# Altium footprint library DRA.PcbLib: 72 footprints (part 1 of 6)
Each footprint in its own frame and in the unit in brackets; x right, y up, seen from the top. Pads: shape width x height; smd on the part's side, far side on the other; paste and mask are expansions set on the pad; w line width, h text height; cw(c..) or ccw(c..) is an arc to the next point about the centre after c.
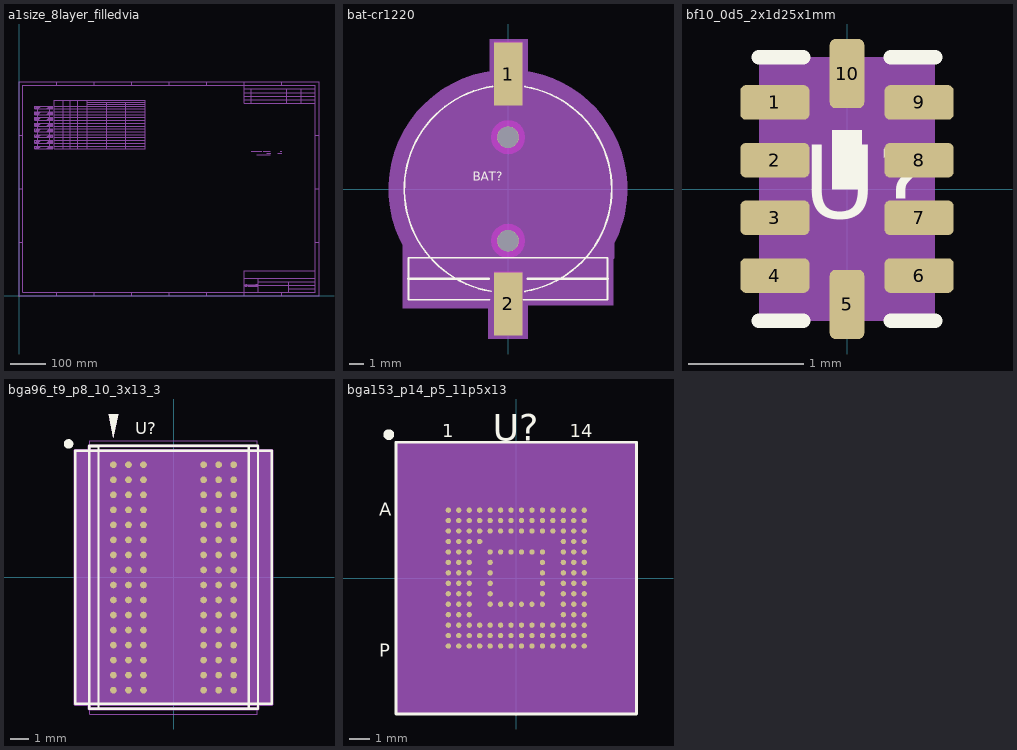
[diagram p0: the footprints below, top view; thin cyan lines are the x and y axes]

## a1size_8layer_filledvia [mil]
OUTLINE:
  drawing of 5288 lines, arcs and shapes, not listed
  text "7" at 26874.02,113.52 h225
  text "PREPREG" at 4044.72,18517.64 h80
  text "5" at 18606.3,23341.86 h225
  text "W:5" at 8219,17571 h80
  text "W:3.5/S:6.5" at 12216,18211 h80
  text "0.5 OZ" at 5775.83,20104.42 h80
  text "REV" at 25059.35,22604.46 h80
  text "L8 BOTTOM" at 3979.39,16291.5 h80
  text "B). OSP, THE OSP COATING THICKNESS IS 0.2 um ~0.5um." at 25167.26,10351.97 h80
  text "PREPREG" at 4044.72,19777.48 h80
  text "MANUFACTURER TO COMPENSATE FOR MANUFACTURING PROCESS TOLERANCES," at 25560.96,16769.29 h80
  text "FR4" at 5100.92,19808.82 h80
  text "6" at 22740.16,23341.86 h225
  text "PREPREG" at 2401.68,17247.4 h80
  text "0.5 OZ" at 5775.83,18855.42 h80
  text "COPPER" at 4995.92,20123.78 h80
  text "3" at 10338.58,113.52 h225
  text "TOP" at 4235.54,20711.97 h80
  text "COPPER" at 4995.92,18863.94 h80
  text "LAYER" at 4224.12,21223.78 h80
  text "PREPREG" at 2401.68,19767.09 h80
  text "ELEC ENGR:" at 29828.58,1336.22 h80
  text "17mil" at 5752.49,19141.89 h80
  text "4. FABRICATION TOLERANCE:" at 24839.8,15194.49 h80
  text "MAXIM 2.5mil" at 25560.96,12044.88 h80
  text "B). SOLDER MASK BOTH PRIMARY AND SECONDARY SIDES, THE ADHESION OF SOLDER" at 25206.63,12832.28 h80
  text "REV:" at 29829.54,942.52 h80
  text "4mil" at 5755.83,18525.22 h80
  text "DIMENSIONS ARE METRIC, DIMENSIONS ARE AFTER ETCHING AND PLATING." at 25206.63,6926.77 h80
  text "3. FABRICATION REQUIREMENTS:" at 24839.8,17359.84 h80
  text "PREPREG" at 4044.72,19147.56 h80
  text "TITLE:" at 26477.18,1729.92 h80
  text "L4 INNER" at 2356.61,18822.2 h80
  text "1. ACCEPTABILITY:" at 24839.8,18737.8 h80
  text "THICKNESS" at 5657.99,21223.78 h80
  text "0.5 OZ" at 5775.83,18229.42 h80
  text "FR4" at 5100.92,18541.77 h80
  text "W:5" at 8185.41,19468.56 h80
  text "www.seeedstudio.com" at 26500.79,656.69 h80
  text "ROUTING" at 6692.91,18188.98 h80
  text "PREPREG" at 4044.72,17257.8 h80
  text "FR4" at 5100.92,19178.9 h80
  text "L3 INNER" at 2356.61,19452.13 h80
  text "5" at 18606.3,113.52 h225
  text "W:4/S:5" at 10161.29,19487.47 h80
  text "8" at 31007.87,23341.86 h225
  text "L7 INNER" at 3998.72,16942.84 h80
  text "W:3.3/S:4.5" at 12214.57,20739.51 h80
  text "0.5 OZ" at 5775.83,16949.42 h80
  text "PRINTED WIRING BOARD SHALL MEET THE REQUIREMENTS OF IPC- 6012C CLASS 2." at 25206.63,18540.94 h80
  text "9. MEASUREMENTS:" at 24839.8,7320.47 h80
  text "L2 INNER" at 3998.72,20092.44 h80
  text "A). ENIG, GOLD THICKNESS IS 0.05 um ~0.23um,NICKEL THICKNESS IS 3 um ~6 um." at 25167.26,10548.82 h80
  text "DIFFERENCE 90ohm-/+10%" at 9693.3,21194.81 h80
  text "IMPEDANCE" at 10291.3,21431.03 h80
  text "LAYERS LAMINATION & IMPENDANCE  CONTROL" at 4079.63,21772.73 h225
  text "FR4" at 5100.92,17277.67 h80
  text "PREPREG" at 2401.68,19137.16 h80
  text "Line width/Space(mil)" at 11865.28,20997.96 h80
  text "ROUTING" at 6698,17595 h80
  text "COPPER" at 4995.92,19493.86 h80
  text "C). MANUFACTUREERS CAN ADD SYMBOL IN SILKSCREEN LAYER OR SOLDER MASK LAYER," at 25167.26,8895.28 h80
  text "A). FAB TO MEET THE REQUIREMENTS PER IPC-A-600, CLASS 2" at 25206.63,17162.99 h80
  text "E). SOLDER MASK BRIDGE BETWEEN PADS SHOULD BE MINIMUM 0.10mm" at 25204.26,11228.51 h80
  text "A). MATERIALS IN ACCORDANCE WITH IPC-SM-840E CLASS T STANDARDS AND ROHS" at 25206.63,13225.98 h80
  text "Line width(mil)" at 7889.32,20997.96 h80
  text "D). SOLDER MASK COLOR  GREEN,SILKSCREEN COLOR  WHITE" at 25206.63,15785.04 h80
  text "AUTHORIZED QA  REPRESENTATIVE. THE BASE MATERIAL OF PCB SHALL NOT CONTAIN THE" at 25206.63,6139.37 h80
  text "FR4" at 5100.92,16640.96 h80
  text "W:5" at 8185.41,16350.59 h80
  text "D). LAYER REGISTRATION BETWEEN ADJACENT LAYER MAXIMUN 150um, THE INTERLAYER" at 25206.63,14407.09 h80
  text "C). SOLDER MASK COVERAGE ON THE MIDDLE OF THE COPPER WIRE MINIMUM 10um,EDGE" at 25206.63,12438.58 h80
  text "L6 INNER" at 2356.61,17562.36 h80
  text "EPOXY BASED INK" at 25521.59,9288.98 h80
  text "A). PRIMARY AND SECONDARY SIDES USING A GLOSSY , NON-CONDUCTIVE, RoHS COMPLIANT," at 25167.26,9485.83 h80
  text "MEASUREMENT METHOD IN 2.4.22 OF IPC-TM-650 IS FOR REFERENCE" at 25206.63,7714.17 h80
  text "7. SILKSCREEN:" at 24800.42,9682.68 h80
  text "L2 INNER" at 2356.61,20082.05 h80
  text "ROUTING" at 6658,19456.85 h80
  text "GLASS EPOXY FR-4 FIRE RETARDANT AND UL 94V-0 RATING MATERIAL SHOULD MEET" at 25206.63,17950.39 h80
  text "2" at 6204.72,113.52 h225
  text "DIELECTRIC THICKNESS TOLERANCE +/-15%" at 25560.96,14210.24 h80
  text "7" at 26874.02,23341.86 h225
  text "8. BOW AND TWIST:" at 24839.8,8107.87 h80
  text "LAYERS STACKUP" at 2204.26,21223.78 h80
  text "L4 INNER" at 3998.72,18832.6 h80
  text "C). FABRICATE ACCORDING TO THE FILES PART NO:" at 25206.63,16178.74 h80
  text "Seeed Technology co.,Ltd." at 25496.06,2278.87 h225
  text "MAX BOW & TWIST OF PCB SHALL NOT EXCEED 0.75% OF MAXIMUN DIMENSION," at 25206.63,7911.02 h80
  text "DATE" at 30082.5,22596.06 h80
  text "PREPREG" at 2401.68,18507.24 h80
  text "PREPREG" at 2401.68,16617.48 h80
  text "PREPREG" at 4044.72,17887.72 h80
  text "L5 INNER" at 3998.72,18202.68 h80
  text "5. SOLDER MASK:" at 24839.8,13422.84 h80
  text "A" at 32779.53,2869.42 h225
  text "A" at 102.36,2869.42 h225
  text "2020/08/24" at 29710.47,22202.36 h80
  text "PREPREG" at 2401.68,17877.32 h80
  text "6. FINISH:" at 24800.42,10745.67 h80
  text "4mil" at 5775.83,17277.52 h80
  text "E). FINISH ENIG/OSP/LF HASL" at 25206.63,15588.19 h80
  text "THE  PCB SUPPLIER SHALL PROVIDE A SIGNED CERTIFICATE OF COMPLIANCE BY" at 25206.63,6336.22 h80
  text "NOTE" at 24842.52,19251.97 h225
  text "L3 INNER" at 3998.72,19462.52 h80
  text "B). NO SILKSCREEN ALLOWED ON PADS OR IN HOLES" at 25167.26,9092.13 h80
  text "4" at 14472.44,113.52 h225
  text "NON-CONDUCTIVE MATERIAL" at 25567.67,11464.73 h80
  text "PREPREG" at 2401.68,20397.01 h80
  text "E). THICKNESS IS LESS THAN 1mm PCB TO A TOLERANCE OF +/-0.1mm,THICKNESS IS" at 25206.63,14013.39 h80
  text "2. MATERIAL:" at 24839.8,18147.24 h80
  text "COVERAGE OF THE COPPER WIRE MINIMUM 4um, SOLDER MASK MISREGISTRATION" at 25560.96,12241.73 h80
  text "L6 INNER" at 3998.72,17572.76 h80
  text "3mil" at 5752.49,16622.21 h80
  text "0.5 OZ" at 5775.83,19499.42 h80
  text "GREATER THAN OR EQUAL TO 1mm PCB TO A TOLERANCE OF +/-10%" at 25560.96,13816.54 h80
  text "BANNED SUBSTANCES LISTED IN THE CERTIFICATE OF COMPLIANCE." at 25206.63,5942.52 h80
  text "COPPER" at 4995.92,18214.06 h80
  text "COPPER" at 4995.92,17586.66 h80
  text "A). WIRE WIDTH TOLERANCE INTERNAL CONTROL STANDARD +/-20%" at 25206.63,14997.64 h80
  text "W:4/S:5" at 10161.94,18197.01 h80
  text "COPPER" at 4995.92,16978.08 h80
  text "C" at 102.36,14680.44 h225
  text "C" at 32779.53,14680.44 h225
  text "THE TOTAL THICKNESS:" at 4373.38,15396.28 h225
  text "W:3.3/S:4.5" at 12366.14,16346.46 h80
  text "AUTH" at 31657.3,22596.06 h80
  text "3" at 10338.58,23341.86 h225
  text "W:5" at 8128.41,20758.22 h80
  text "FR4" at 5100.92,17923.78 h80
  text "THIEVING IS ALLOWED TO COMPENSATE FOR HIGH COPPER DENSITY AREAS" at 25560.96,16375.59 h80
  text "2" at 6204.72,23341.86 h225
  text "Line width/Space(mil)" at 9699.93,20997.96 h80
  text "ROUTING" at 6688.07,20751.34 h80
  text "D). ALL HOLES WITH SOLDER MASK COVERED IN THE GERBER SHOULD BE PULGED" at 25206.63,11848.03 h80
  text "1" at 2070.87,113.52 h225
  text "B). ALL ARTWORK OR ELECTRONIC DATA MAY BE ADJUSTED BY THE BOARD" at 25206.63,16966.14 h80
  text "W:5" at 8228.35,18188.98 h80
  text "LAYER TYPE" at 6583.07,21223.78 h80
  text "W:4.3/S:5.5" at 10048.96,20758.34 h80
  text "C). ALL OUTER LAYER PADS REQUIRE +/-0.05mm TOLERANCE." at 25206.63,14603.94 h80
  text "4mil" at 5706.49,19771.82 h80
  text "ALL VIAS IN PADS WITH HOLE DIAMETER LESS THAN 0.4mm SHOULD BE FILLED WITH" at 25590.51,11661.58 h80
  text "2020/08/24" at 30415,547 h80
  text "W:4.3/S:5.5" at 10217.44,16331.97 h80
  text "COPPER" at 4995.92,20751.34 h80
  text "0.5 OZ" at 5759.12,17606.46 h80
  text "1 OZ" at 5775.83,16351.42 h80
  text "DIFFERENCE 100ohm-/+10%" at 11773.28,21194.81 h80
  text "W:4/S:5" at 10148.94,17582.01 h80
  text "W:3.5/S:6.5" at 12212,17605 h80
  text "PLANE" at 6758.07,20121.42 h80
  text "PREPREG" at 4044.72,16627.88 h80
  text "D" at 32779.53,20585.96 h225
  text "DATE:" at 29842.52,551.18 h80
  text "IPC-4101C" at 25206.63,17753.54 h80
  text "REQUIREMENTS" at 25560.96,13029.13 h80
  text "PREPREG" at 4044.72,20407.41 h80
  text "REVISIONS" at 27874.02,22908.79 h225
  text "1.6mm+/-10%" at 9137.87,15371.62 h225
  text "ROUTING" at 6688.07,16313.25 h80
  text "ALLOW TO INCREASE SYMBOL :ASSEMBLY REF , DATE CODE, LEAD-FREE SYMBOL, UL FILE" at 25521.59,8698.42 h80
  text "ACTION" at 25824.63,22596.06 h80
  text "Seeed" at 31656,22189 h80
  text "MASK MEET THE REQUIREMENTS OF IPC-A-600F LEVEL 2" at 25560.96,12635.43 h80
  text "L7 INNER" at 2356.61,16932.44 h80
  text "L8 BOTTOM" at 2342,16298 h80
  text "3mil" at 5706.49,20401.74 h80
  text "L5 INNER" at 2356.61,18192.28 h80
  text "first release" at 25817,22191 h80
  text "6" at 22740.16,113.52 h225
  text "FR4" at 5100.92,20436.38 h80
  text "ADDITION OF FILLETS TEARDROPS AT LINE / PAD INTERFACE IS PREFERRED." at 25560.96,16572.44 h80
  text "W:3.5/S:6.5" at 12248.15,19456.85 h80
  text "PLANE" at 6771.65,18858.27 h80
  text "1001001000059_ MINI8600B_GERBER_Rev00 FILE FOR MANUFACTURING" at 25560.96,15981.89 h80
  text "ADD:" at 26499.82,942.52 h80
  text "COPPER" at 4995.92,16350.78 h80
  text "1 OZ" at 5775.83,20747.39 h80
  text "v1.0" at 30206,937 h80
  text "MATERIAL" at 4876.3,21223.78 h80
  text "TOP" at 2581.99,20711.97 h80
  text "PLANE" at 6758.07,16968.67 h80
  text "17mil" at 5775.83,17921.12 h80
  text "PART NUMBER:" at 26498.86,1336.22 h80
  text "INTERPRET ALL DIMENSIONS AND TOLERANCES PER IPC-D-300G, CLASS B AND ALL" at 25206.63,7123.62 h80
  text "C). LF HASL, Sn THICKNESS IS 1 um ~40um ." at 25167.26,10155.12 h80
  text "v1.0" at 25071,22203 h80
  text "4" at 14472.44,23341.86 h225
  text "SINGLE 50ohm+/-10%" at 7751.32,21194.81 h80
  text "NUMBER,UL TYPE, UL SYMBOL AND FIRE RATING,NO LIST DOES NOT ALLOW TO INCREASE." at 25521.59,8501.58 h80
  text "D" at 102.36,20585.96 h225
  text "10.ENVIRONMENTAL:" at 24839.8,6533.07 h80
  text "B). PTH  DIAMETER TOLERANCE +/-0.076mm,NPTH DIAMETER TOLERANCE +/-0.05mm" at 25206.63,14800.79 h80
  text "1" at 2070.87,23341.86 h225
  text "B" at 32779.53,8774.93 h225
  text "8" at 31007.87,113.52 h225
  text "B" at 102.36,8774.93 h225
DRAWING_ORIGIN:
  lines w1: -25,0 25,0 ; 0,-25 0,25
REVISION_BLOCK:
  lines w11.81: 25590.55,15944.88 26732.28,15944.88 ; 26220.47,15551.18 27677.16,15551.18 ; 26929.13,15944.88 27716.54,15944.88 ; 27322.84,15748.03 27755.91,15748.03 ; 28527.56,15748.03 28960.63,15748.03 ; 28779.53,15944.88 28937.01,15944.88

## bat-cr1220 [mil]
pads (4):
  rect 80x176 smd: 1(0,322.83) 2(0,-322.83)
  round 60 hole 60: ""(0,-145.67) ""(0,145.67)
TOP keep-out:
  region: -39.37,-232.28 -39.37,-409.45 39.37,-409.45 39.37,-232.28
  region: -39.37,413.39 -39.37,236.22 39.37,236.22 39.37,413.39
Top Overlay:
  lines w5: -51.18,-311.02 -279.53,-311.02 -279.53,-192.91 279.53,-192.91 279.53,-311.02 43.31,-311.02 ; -47.9,-287.37 cw(c0,0) -43.41,288.09 ; 47.26,-287.48 ccw(c0,0) 291.34,0 ccw(c0,0) 47.26,287.48
  lines w7.87: -279.53,-251.97 -55.12,-251.97 ; 55.12,-251.97 279.53,-251.97
  text "BAT?" at -98.43,23.62 h25
PLACE_BOUND_TOP:
  region: 334.65,0 334.65,14.71 332.07,44.01 326.93,72.98 319.26,101.38 309.13,129 296.62,155.63 281.82,181.05 264.85,205.08 245.84,227.53 224.93,248.22 202.28,267 178.07,283.71 152.49,298.24 125.74,310.47 98.01,320.31 69.53,327.67 55.02,330.09 55.02,417.43 55.12,417.53 55.12,421.26 -51.18,421.26 -51.18,330.71 -66.96,328.27 -97.91,320.4 -127.98,309.62 -156.87,296.03 -184.35,279.75 -210.15,260.93 -234.04,239.73 -255.8,216.36 -275.24,191.02 -292.18,163.94 -306.46,135.38 -317.96,105.58 -326.57,74.83 -332.21,43.39 -334.83,11.57 -334.41,-20.37 -330.95,-52.12 -324.49,-83.39 -315.07,-113.91 -302.79,-143.39 -295.28,-157.48 -295.28,-334.65 -55.12,-334.65 -55.12,-421.26 55.12,-421.26 55.12,-326.77 295.28,-326.77 295.28,-196.85 297.73,-194.39 297.73,-152.78 302.26,-143.96 310.26,-125.8 317.16,-107.2 322.96,-88.23 327.62,-68.95 331.13,-49.42 333.47,-29.72 334.65,-9.92
Multi-Layer keep-out:
  region: 47.65,-145.67 46.02,-133.34 41.26,-121.85 33.69,-111.98 23.82,-104.41 12.33,-99.65 0,-98.02 -12.33,-99.65 -23.82,-104.41 -33.69,-111.98 -41.26,-121.85 -46.02,-133.34 -47.65,-145.67 -46.02,-158 -41.26,-169.49 -33.69,-179.36 -23.82,-186.93 -12.33,-191.69 0,-193.32 12.33,-191.69 23.82,-186.93 33.69,-179.36 41.26,-169.49 46.02,-158
  region: 47.65,145.67 46.02,158 41.26,169.49 33.69,179.36 23.82,186.93 12.33,191.69 0,193.32 -12.33,191.69 -23.82,186.93 -33.69,179.36 -41.26,169.49 -46.02,158 -47.65,145.67 -46.02,133.34 -41.26,121.85 -33.69,111.98 -23.82,104.41 -12.33,99.65 0,98.02 12.33,99.65 23.82,104.41 33.69,111.98 41.26,121.85 46.02,133.34
DRAWING_ORIGIN:
  lines w1: -25,0 25,0 ; 0,-25 0,25
PIN_NUMBER:
  text "2" at -10,-322.83 h25
  text "1" at -10,322.83 h25
ASSEMBLY_TOP:
  text "V?" at -196.85,-129.92 h25
  text "BAT?" at -102.36,15.75 h25
3D body: height 150, standoff 0, extent -334.83,-421.26 334.65,421.26

## bf10_0d5_2x1d25x1mm [mm]
pads (10):
  rrect33% 0.6x0.3 smd: 1(-0.625,0.75) 2(-0.625,0.25) 3(-0.625,-0.25) 4(-0.625,-0.75) 6(0.625,-0.75) 7(0.625,-0.25) 8(0.625,0.25) 9(0.625,0.75)
  rrect33% 0.3x0.6 smd: 5(0,-1) 10(0,1)
Top Overlay:
  dashed: -0.127,0.508 -0.127,0 0.127,0 0.127,0.508
  lines w0.127: -0.762,-1.143 -0.381,-1.143 ; -0.762,1.143 -0.381,1.143 ; 0.381,-1.143 0.762,-1.143 ; 0.381,1.143 0.762,1.143
  text "U?" at -0.381,-0.254 h0.64
PLACE_BOUND_TOP:
  region: 0.762,-1.143 0.762,1.143 -0.762,1.143 -0.762,-1.143
DRAWING_ORIGIN:
  lines w0.025: -0.635,0 0.635,0 ; 0,-0.635 0,0.635
PIN_NUMBER:
  text "9" at 0.371,0.75 h0.64
  text "5" at -0.254,-1 h0.64
  text "8" at 0.371,0.25 h0.64
  text "1" at -0.879,0.75 h0.64
  text "6" at 0.371,-0.75 h0.64
  text "10" at -0.508,1 h0.64
  text "2" at -0.879,0.25 h0.64
  text "7" at 0.371,-0.25 h0.64
  text "4" at -0.879,-0.75 h0.64
  text "3" at -0.879,-0.25 h0.64
ASSEMBLY_TOP:
  dashed: -0.254,0.635 -0.254,-0.127 0.254,-0.127 0.254,0.635
  lines w0.127: -0.625,-1 0.625,-1 0.625,1 -0.625,1 -0.625,-1
  text "U?" at -0.381,0 h0.64
  text "U?" at -0.254,0.127 h0.64
3D body: height 3.81, standoff 0, extent -0.762,-1.143 0.762,1.143

## bga96_t9_p8_10_3x13_3 [mil]
pads (96):
  round 14 smd: A1(-126,236.25) A2(-94.5,236.25) A3(-63,236.25) A7(63,236.25) A8(94.5,236.25) A9(126,236.25) B1(-126,204.75) B2(-94.5,204.75) B3(-63,204.75) B7(63,204.75) B8(94.5,204.75) B9(126,204.75) C1(-126,173.25) C2(-94.5,173.25) C3(-63,173.25) C7(63,173.25) C8(94.5,173.25) C9(126,173.25) D1(-126,141.75) D2(-94.5,141.75) D3(-63,141.75) D7(63,141.75) D8(94.5,141.75) D9(126,141.75) E1(-126,110.25) E2(-94.5,110.25) E3(-63,110.25) E7(63,110.25) E8(94.5,110.25) E9(126,110.25) F1(-126,78.75) F2(-94.5,78.75) F3(-63,78.75) F7(63,78.75) F8(94.5,78.75) F9(126,78.75) G1(-126,47.25) G2(-94.5,47.25) G3(-63,47.25) G7(63,47.25) G8(94.5,47.25) G9(126,47.25) H1(-126,15.75) H2(-94.5,15.75) H3(-63,15.75) H7(63,15.75) H8(94.5,15.75) H9(126,15.75) J1(-126,-15.75) J2(-94.5,-15.75) J3(-63,-15.75) J7(63,-15.75) J8(94.5,-15.75) J9(126,-15.75) K1(-126,-47.25) K2(-94.5,-47.25) K3(-63,-47.25) K7(63,-47.25) K8(94.5,-47.25) K9(126,-47.25) L1(-126,-78.75) L2(-94.5,-78.75) L3(-63,-78.75) L7(63,-78.75) L8(94.5,-78.75) L9(126,-78.75) M1(-126,-110.25) M2(-94.5,-110.25) M3(-63,-110.25) M7(63,-110.25) M8(94.5,-110.25) M9(126,-110.25) N1(-126,-141.75) N2(-94.5,-141.75) N3(-63,-141.75) N7(63,-141.75) N8(94.5,-141.75) N9(126,-141.75) P1(-126,-173.25) P2(-94.5,-173.25) P3(-63,-173.25) P7(63,-173.25) P8(94.5,-173.25) P9(126,-173.25) R1(-126,-204.75) R2(-94.5,-204.75) R3(-63,-204.75) R7(63,-204.75) R8(94.5,-204.75) R9(126,-204.75) T1(-126,-236.25) T2(-94.5,-236.25) T3(-63,-236.25) T7(63,-236.25) T8(94.5,-236.25) T9(126,-236.25)
Top Overlay:
  circle w10: c-220,280 r5
  dashed: -126,292.75 -116,342.75 -136,342.75
  lines w5: -177,275.5 -157.32,275.5 -157.32,-275 ; -172,-275 -157.32,-275 ; 123,276 157.32,276 157.32,-275 -157.32,-275 ; -206,-265 -206,266 206,266 206,-265 -206,-265 ; -177,-275 177,-275 177,276 -177,276 -177,-275
  text "U?" at -80,300 h25
Bottom Overlay:
  text "E" at 222,89.75 h25
  text "G" at 222,26.75 h25
  text "7" at 74,-321.25 h25
  text "R" at 222,-225.25 h25
  text "A" at 222,215.75 h25
  text "J" at 222,-36.25 h25
  text "L" at 222,-99.25 h25
  text "C" at 222,152.75 h25
  text "3" at -52,-321.25 h25
  text "N" at 222,-162.25 h25
  text "9" at 137,-321.25 h25
  text "1" at -115,-321.25 h25
PLACE_BOUND_TOP:
  region: -206,266 -206,-265 206,-265 206,266
DRAWING_ORIGIN:
  lines w1: -25,0 25,0 ; 0,-25 0,25
PIN_NUMBER:
  text "R7" at 59,-204.75 h5
  text "N7" at 59,-141.75 h5
  text "G8" at 90.5,47.25 h5
  text "J7" at 59,-15.75 h5
  text "B9" at 122,204.75 h5
  text "J1" at -130,-15.75 h5
  text "C8" at 90.5,173.25 h5
  text "H1" at -130,15.75 h5
  text "D3" at -67,141.75 h5
  text "N2" at -98.5,-141.75 h5
  text "C2" at -98.5,173.25 h5
  text "K2" at -98.5,-47.25 h5
  text "B1" at -130,204.75 h5
  text "D7" at 59,141.75 h5
  text "G1" at -130,47.25 h5
  text "E3" at -67,110.25 h5
  text "H8" at 90.5,15.75 h5
  text "M7" at 59,-110.25 h5
  text "F8" at 90.5,78.75 h5
  text "F2" at -98.5,78.75 h5
  text "L3" at -67,-78.75 h5
  text "P2" at -98.5,-173.25 h5
  text "A7" at 59,236.25 h5
  text "H7" at 59,15.75 h5
  text "R2" at -98.5,-204.75 h5
  text "M3" at -67,-110.25 h5
  text "T9" at 122,-236.25 h5
  text "K3" at -67,-47.25 h5
  text "N1" at -130,-141.75 h5
  text "G3" at -67,47.25 h5
  text "A9" at 122,236.25 h5
  text "K8" at 90.5,-47.25 h5
  text "L7" at 59,-78.75 h5
  text "G7" at 59,47.25 h5
  text "H3" at -67,15.75 h5
  text "T8" at 90.5,-236.25 h5
  text "D2" at -98.5,141.75 h5
  text "F7" at 59,78.75 h5
  text "K7" at 59,-47.25 h5
  text "M9" at 122,-110.25 h5
  text "E2" at -98.5,110.25 h5
  text "L2" at -98.5,-78.75 h5
  text "D8" at 90.5,141.75 h5
  text "A1" at -130,236.25 h5
  text "P1" at -130,-173.25 h5
  text "M1" at -130,-110.25 h5
  text "D1" at -130,141.75 h5
  text "L9" at 122,-78.75 h5
  text "F1" at -130,78.75 h5
  text "K1" at -130,-47.25 h5
  text "G9" at 122,47.25 h5
  text "N9" at 122,-141.75 h5
  text "E1" at -130,110.25 h5
  text "C1" at -130,173.25 h5
  text "B3" at -67,204.75 h5
  text "P3" at -67,-173.25 h5
  text "A8" at 90.5,236.25 h5
  text "F3" at -67,78.75 h5
  text "L1" at -130,-78.75 h5
  text "E9" at 122,110.25 h5
  text "H2" at -98.5,15.75 h5
  text "P7" at 59,-173.25 h5
  text "G2" at -98.5,47.25 h5
  text "T2" at -98.5,-236.25 h5
  text "T3" at -67,-236.25 h5
  text "H9" at 122,15.75 h5
  text "N8" at 90.5,-141.75 h5
  text "F9" at 122,78.75 h5
  text "E8" at 90.5,110.25 h5
  text "J3" at -67,-15.75 h5
  text "R3" at -67,-204.75 h5
  text "C7" at 59,173.25 h5
  text "T7" at 59,-236.25 h5
  text "B7" at 59,204.75 h5
  text "M8" at 90.5,-110.25 h5
  text "R8" at 90.5,-204.75 h5
  text "J9" at 122,-15.75 h5
  text "C3" at -67,173.25 h5
  text "A3" at -67,236.25 h5
  text "C9" at 122,173.25 h5
  text "K9" at 122,-47.25 h5
  text "J2" at -98.5,-15.75 h5
  text "M2" at -98.5,-110.25 h5
  text "P8" at 90.5,-173.25 h5
  text "L8" at 90.5,-78.75 h5
  text "E7" at 59,110.25 h5
  text "J8" at 90.5,-15.75 h5
  text "P9" at 122,-173.25 h5
  text "N3" at -67,-141.75 h5
  text "R9" at 122,-204.75 h5
  text "T1" at -130,-236.25 h5
  text "B2" at -98.5,204.75 h5
  text "D9" at 122,141.75 h5
  text "R1" at -130,-204.75 h5
  text "A2" at -98.5,236.25 h5
  text "B8" at 90.5,204.75 h5
ASSEMBLY_TOP:
  circle w7: c-181,241.25 r15
  dashed: -126,292.75 -116,342.75 -136,342.75
  lines w7: -206,-265.5 -206,265.5 206,265.5 206,-265.5 -206,-265.5 ; -177,-275.5 -177,275.5 177,275.5 177,-275.5 -177,-275.5
  text "U?" at -80,-20 h25
  text "C" at 222,152.75 h25
  text "L" at 222,-99.25 h25
  text "J" at 222,-36.25 h25
  text "7" at 74,-321.25 h25
  text "9" at 137,-321.25 h25
  text "A" at 222,215.75 h25
  text "E" at 222,89.75 h25
  text "3" at -52,-321.25 h25
  text "1" at -115,-321.25 h25
  text "G" at 222,26.75 h25
  text "R" at 222,-225.25 h25
  text "U?" at -39,46 h25
  text "N" at 222,-162.25 h25
REWORK_PKG_BOTTOM:
  lines w1: -15,0 15,0 ; 0,-15 0,15
REWORK_PKG_TOP:
  dashed: -134,245 -134,-245 -55,-245 -55,245
  dashed: 134,-245 134,245 55,245 55,-245
  lines w1: -15,0 15,0 ; 0,-15 0,15
Mech255:
  lines w1: -176,-286.25 -176,286.25 176,286.25 176,-286.25 -176,-286.25
3D body: height 150, standoff 0, extent -206,-265 206,266

## bga153_p14_p5_11p5x13 [mil]
pads (153):
  round 10 smd: A1(-127.95,127.95) A2(-108.27,127.95) A3(-88.58,127.95) A4(-68.9,127.95) A5(-49.21,127.95) A6(-29.53,127.95) A7(-9.84,127.95) A8(9.84,127.95) A9(29.53,127.95) A10(49.21,127.95) A11(68.9,127.95) A12(88.58,127.95) A13(108.27,127.95) A14(127.95,127.95) B1(-127.95,108.27) B2(-108.27,108.27) B3(-88.58,108.27) B4(-68.9,108.27) B5(-49.21,108.27) B6(-29.53,108.27) B7(-9.84,108.27) B8(9.84,108.27) B9(29.53,108.27) B10(49.21,108.27) B11(68.9,108.27) B12(88.58,108.27) B13(108.27,108.27) B14(127.95,108.27) C1(-127.95,88.58) C2(-108.27,88.58) C3(-88.58,88.58) C4(-68.9,88.58) C5(-49.21,88.58) C6(-29.53,88.58) C7(-9.84,88.58) C8(9.84,88.58) C9(29.53,88.58) C10(49.21,88.58) C11(68.9,88.58) C12(88.58,88.58) C13(108.27,88.58) C14(127.95,88.58) D1(-127.95,68.9) D2(-108.27,68.9) D3(-88.58,68.9) D4(-68.9,68.9) D12(88.58,68.9) D13(108.27,68.9) D14(127.95,68.9) E1(-127.95,49.21) E2(-108.27,49.21) E3(-88.58,49.21) E5(-49.21,49.21) E6(-29.53,49.21) E7(-9.84,49.21) E8(9.84,49.21) E9(29.53,49.21) E10(49.21,49.21) E12(88.58,49.21) E13(108.27,49.21) E14(127.95,49.21) F1(-127.95,29.53) F2(-108.27,29.53) F3(-88.58,29.53) F5(-49.21,29.53) F10(49.21,29.53) F12(88.58,29.53) F13(108.27,29.53) F14(127.95,29.53) G1(-127.95,9.84) G2(-108.27,9.84) G3(-88.58,9.84) G5(-49.21,9.84) G10(49.21,9.84) G12(88.58,9.84) G13(108.27,9.84) G14(127.95,9.84) H1(-127.95,-9.84) H2(-108.27,-9.84) H3(-88.58,-9.84) H5(-49.21,-9.84) H10(49.21,-9.84) H12(88.58,-9.84) H13(108.27,-9.84) H14(127.95,-9.84) J1(-127.95,-29.53) J2(-108.27,-29.53) J3(-88.58,-29.53) J5(-49.21,-29.53) J10(49.21,-29.53) J12(88.58,-29.53) J13(108.27,-29.53) J14(127.95,-29.53) K1(-127.95,-49.21) K2(-108.27,-49.21) K3(-88.58,-49.21) K5(-49.21,-49.21) K6(-29.53,-49.21) K7(-9.84,-49.21) K8(9.84,-49.21) K9(29.53,-49.21) K10(49.21,-49.21) K12(88.58,-49.21) K13(108.27,-49.21) K14(127.95,-49.21) L1(-127.95,-68.9) L2(-108.27,-68.9) L3(-88.58,-68.9) L12(88.58,-68.9) L13(108.27,-68.9) L14(127.95,-68.9) M1(-127.95,-88.58) M2(-108.27,-88.58) M3(-88.58,-88.58) M4(-68.9,-88.58) M5(-49.21,-88.58) M6(-29.53,-88.58) M7(-9.84,-88.58) M8(9.84,-88.58) M9(29.53,-88.58) M10(49.21,-88.58) M11(68.9,-88.58) M12(88.58,-88.58) M13(108.27,-88.58) M14(127.95,-88.58) N1(-127.95,-108.27) N2(-108.27,-108.27) N3(-88.58,-108.27) N4(-68.9,-108.27) N5(-49.21,-108.27) N6(-29.53,-108.27) N7(-9.84,-108.27) N8(9.84,-108.27) N9(29.53,-108.27) N10(49.21,-108.27) N11(68.9,-108.27) N12(88.58,-108.27) N13(108.27,-108.27) N14(127.95,-108.27) P1(-127.95,-127.95) P2(-108.27,-127.95) P3(-88.58,-127.95) P4(-68.9,-127.95) P5(-49.21,-127.95) P6(-29.53,-127.95) P7(-9.84,-127.95) P8(9.84,-127.95) P9(29.53,-127.95) P10(49.21,-127.95) P11(68.9,-127.95) P12(88.58,-127.95) P13(108.27,-127.95) P14(127.95,-127.95)
Top Overlay:
  circle w10: c-240,270 r5
  lines w5: -226.38,-255.91 -226.38,255.91 226.38,255.91 226.38,-255.91 -226.38,-255.91
  text "14" at 100.95,265.26 h25
  text "A" at -257.56,117.62 h25
  text "P" at -257.56,-148.13 h25
  text "U?" at -44.5,258.93 h50
  text "1" at -139.45,265.26 h25
PLACE_BOUND_TOP:
  region: -226.38,-255.91 226.38,-255.91 226.38,255.91 -226.38,255.91
DRAWING_ORIGIN:
  lines w1: -25,0 25,0 ; 0,-25 0,25
PIN_NUMBER:
  text "P1" at -134.35,-127.95 h8
  text "N5" at -55.61,-108.27 h8
  text "K6" at -35.93,-49.21 h8
  text "L12" at 78.98,-68.9 h8
  text "F14" at 118.35,29.53 h8
  text "C8" at 3.44,88.58 h8
  text "C9" at 23.13,88.58 h8
  text "E3" at -94.98,49.21 h8
  text "L1" at -134.35,-68.9 h8
  text "B12" at 78.98,108.27 h8
  text "C3" at -94.98,88.58 h8
  text "G10" at 39.61,9.84 h8
  text "K8" at 3.44,-49.21 h8
  text "A12" at 78.98,127.95 h8
  text "A4" at -75.3,127.95 h8
  text "B14" at 118.35,108.27 h8
  text "H1" at -134.35,-9.84 h8
  text "E1" at -134.35,49.21 h8
  text "C4" at -75.3,88.58 h8
  text "C14" at 118.35,88.58 h8
  text "N3" at -94.98,-108.27 h8
  text "G2" at -114.67,9.84 h8
  text "D13" at 98.67,68.9 h8
  text "M1" at -134.35,-88.58 h8
  text "F3" at -94.98,29.53 h8
  text "H2" at -114.67,-9.84 h8
  text "K1" at -134.35,-49.21 h8
  text "D12" at 78.98,68.9 h8
  text "H13" at 98.67,-9.84 h8
  text "B13" at 98.67,108.27 h8
  text "K13" at 98.67,-49.21 h8
  text "A3" at -94.98,127.95 h8
  text "M13" at 98.67,-88.58 h8
  text "J13" at 98.67,-29.53 h8
  text "E6" at -35.93,49.21 h8
  text "J5" at -55.61,-29.53 h8
  text "M8" at 3.44,-88.58 h8
  text "N7" at -16.24,-108.27 h8
  text "E14" at 118.35,49.21 h8
  text "K12" at 78.98,-49.21 h8
  text "N13" at 98.67,-108.27 h8
  text "M12" at 78.98,-88.58 h8
  text "P14" at 118.35,-127.95 h8
  text "M2" at -114.67,-88.58 h8
  text "N2" at -114.67,-108.27 h8
  text "A13" at 98.67,127.95 h8
  text "K3" at -94.98,-49.21 h8
  text "C7" at -16.24,88.58 h8
  text "B1" at -134.35,108.27 h8
  text "F2" at -114.67,29.53 h8
  text "M4" at -75.3,-88.58 h8
  text "B11" at 59.3,108.27 h8
  text "E5" at -55.61,49.21 h8
  text "C6" at -35.93,88.58 h8
  text "C12" at 78.98,88.58 h8
  text "M9" at 23.13,-88.58 h8
  text "B5" at -55.61,108.27 h8
  text "A11" at 59.3,127.95 h8
  text "K5" at -55.61,-49.21 h8
  text "A6" at -35.93,127.95 h8
  text "K10" at 39.61,-49.21 h8
  text "P7" at -16.24,-127.95 h8
  text "B7" at -16.24,108.27 h8
  text "B10" at 39.61,108.27 h8
  text "G14" at 118.35,9.84 h8
  text "J12" at 78.98,-29.53 h8
  text "M3" at -94.98,-88.58 h8
  text "N1" at -134.35,-108.27 h8
  text "A7" at -16.24,127.95 h8
  text "A2" at -114.67,127.95 h8
  text "H12" at 78.98,-9.84 h8
  text "M7" at -16.24,-88.58 h8
  text "E7" at -16.24,49.21 h8
  text "H3" at -94.98,-9.84 h8
  text "E10" at 39.61,49.21 h8
  text "D3" at -94.98,68.9 h8
  text "P12" at 78.98,-127.95 h8
  text "P10" at 39.61,-127.95 h8
  text "B4" at -75.3,108.27 h8
  text "G13" at 98.67,9.84 h8
  text "P9" at 23.13,-127.95 h8
  text "D2" at -114.67,68.9 h8
  text "J3" at -94.98,-29.53 h8
  text "B3" at -94.98,108.27 h8
  text "B6" at -35.93,108.27 h8
  text "P8" at 3.44,-127.95 h8
  text "B2" at -114.67,108.27 h8
  text "K7" at -16.24,-49.21 h8
  text "D4" at -75.3,68.9 h8
  text "B9" at 23.13,108.27 h8
  text "P11" at 59.3,-127.95 h8
  text "C13" at 98.67,88.58 h8
  text "A1" at -134.35,127.95 h8
  text "H10" at 39.61,-9.84 h8
  text "G1" at -134.35,9.84 h8
  text "F10" at 39.61,29.53 h8
  text "N8" at 3.44,-108.27 h8
  text "F1" at -134.35,29.53 h8
  text "J10" at 39.61,-29.53 h8
  text "M6" at -35.93,-88.58 h8
  text "A8" at 3.44,127.95 h8
  text "J2" at -114.67,-29.53 h8
  text "K9" at 23.13,-49.21 h8
  text "N9" at 23.13,-108.27 h8
  text "K2" at -114.67,-49.21 h8
  text "P4" at -75.3,-127.95 h8
  text "A9" at 23.13,127.95 h8
  text "P5" at -55.61,-127.95 h8
  text "K14" at 118.35,-49.21 h8
  text "N6" at -35.93,-108.27 h8
  text "J14" at 118.35,-29.53 h8
  text "C11" at 59.3,88.58 h8
  text "J1" at -134.35,-29.53 h8
  text "L3" at -94.98,-68.9 h8
  text "N14" at 118.35,-108.27 h8
  text "G5" at -55.61,9.84 h8
  text "P6" at -35.93,-127.95 h8
  text "F12" at 78.98,29.53 h8
  text "M14" at 118.35,-88.58 h8
  text "A14" at 118.35,127.95 h8
  text "P2" at -114.67,-127.95 h8
  text "L14" at 118.35,-68.9 h8
  text "G3" at -94.98,9.84 h8
  text "E13" at 98.67,49.21 h8
  text "E2" at -114.67,49.21 h8
  text "G12" at 78.98,9.84 h8
  text "M5" at -55.61,-88.58 h8
  text "L2" at -114.67,-68.9 h8
  text "M11" at 59.3,-88.58 h8
  text "C2" at -114.67,88.58 h8
  text "N10" at 39.61,-108.27 h8
  text "A10" at 39.61,127.95 h8
  text "M10" at 39.61,-88.58 h8
  text "H14" at 118.35,-9.84 h8
  text "A5" at -55.61,127.95 h8
  text "C5" at -55.61,88.58 h8
  text "L13" at 98.67,-68.9 h8
  text "N11" at 59.3,-108.27 h8
  text "N4" at -75.3,-108.27 h8
  text "P13" at 98.67,-127.95 h8
  text "P3" at -94.98,-127.95 h8
  text "E9" at 23.13,49.21 h8
  text "B8" at 3.44,108.27 h8
  text "C1" at -134.35,88.58 h8
  text "F5" at -55.61,29.53 h8
  text "C10" at 39.61,88.58 h8
  text "D1" at -134.35,68.9 h8
  text "D14" at 118.35,68.9 h8
  text "H5" at -55.61,-9.84 h8
  text "E8" at 3.44,49.21 h8
  text "N12" at 78.98,-108.27 h8
  text "E12" at 78.98,49.21 h8
  text "F13" at 98.67,29.53 h8
ASSEMBLY_TOP:
  circle w10: c-215,245 r5
  dashed: -226.38,-255.91 226.38,-255.91 226.38,255.91 -226.38,255.91
  text "1" at -145,265 h25
  text "A" at -255,115 h25
  text "U?" at -5,155 h25
  text "14" at 100,265 h25
  text "U?" at -10,200 h25
  text "P" at -255,-150 h25
3D body: height 150, standoff 0, extent -226.38,-255.91 226.38,255.91